# Altium schematic symbol library DF13-5P-1.25DSA(50).Schlib: 1 symbol
Pins are listed as number, name and electrical type; pins without a type are passive.

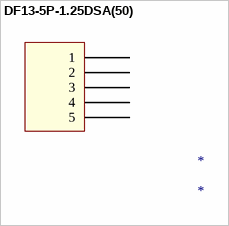
[diagram p0: symbol DF13-5P-1.25DSA(50)]

## DF13-5P-1.25DSA(50)
designator *
CONN SM DF13 5POS SKT
pins: 1, 2, 3, 4, 5